# EAGLE library part MBI5030 (library _LedDrivers)
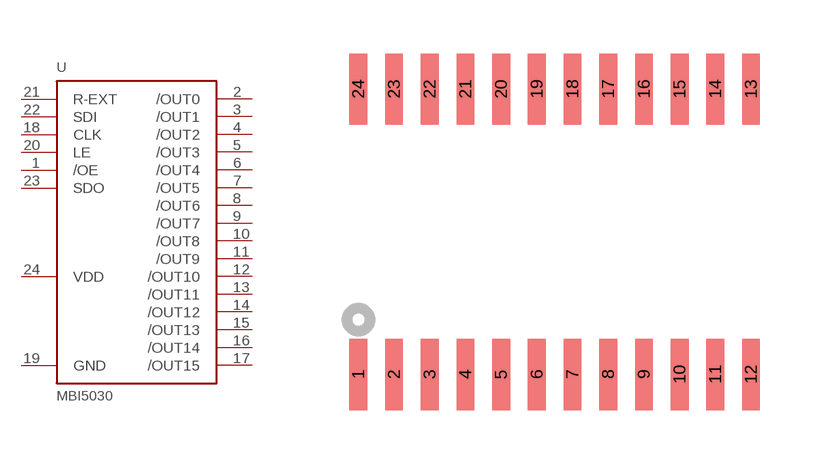
[diagram p2: symbol with the pads of SOP24-300-1.00; footprint SOP24-300-1.00]

Designator prefix -

## MBI5030  [SOP24-300-1.00]
1  /OE
2  /OUT0
3  /OUT1
4  /OUT2
5  /OUT3
6  /OUT4
7  /OUT5
8  /OUT6
9  /OUT7
10  /OUT8
11  /OUT9
12  /OUT10
13  /OUT11
14  /OUT12
15  /OUT13
16  /OUT14
17  /OUT15
18  CLK
19  GND
20  LE
21  R-EXT
22  SDI
23  SDO
24  VDD

## Footprint SOP24-300-1.00 (pad centres in mm)
SMALL OUTLINE PACKAGE
smd 0.5 x 2: 1 -5.48,-4.08; 2 -4.48,-4.08; 3 -3.48,-4.08; 4 -2.48,-4.08; 5 -1.48,-4.08; 6 -0.48,-4.08; 7 0.52,-4.08; 8 1.52,-4.08; 9 2.52,-4.08; 10 3.52,-4.08; 11 4.52,-4.08; 12 5.52,-4.08; 13 5.52,3.92; 14 4.52,3.92; 15 3.52,3.92; 16 2.52,3.92; 17 1.52,3.92; 18 0.52,3.92; 19 -0.48,3.92; 20 -1.48,3.92; 21 -2.48,3.92; 22 -3.48,3.92; 23 -4.48,3.92; 24 -5.48,3.92